# EAGLE library part SN74HC14PW (library TI-SN74HC14)
Hex Schmitt-Trigger Inverter http://www.ti.com/lit/ds/symlink/sn74hc14.pdf Packages: 14-Pin CDIP, CFP, SOIC, SSOP, PDIP, SO, or TSSOP Part #s: SN54HC14J, SNJ54HC14W, SN74HC14DR, SN74HC14DBR, SN74HC14N, SN74HC14NSR, or SN74HC14PW (respectively)
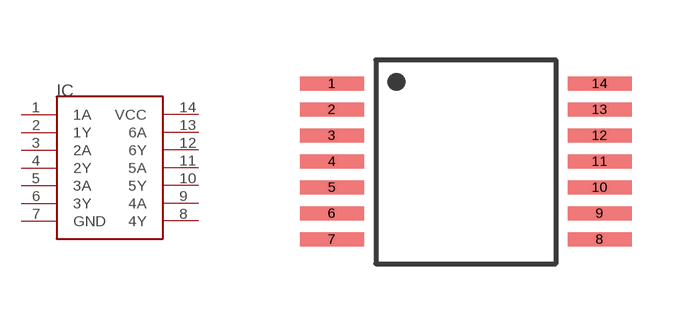
[diagram p0: symbol with the pads of TSSOP-14; footprint TSSOP-14]

Designator prefix IC

## SN74HC14PW  [TSSOP-14]
1  1A
2  1Y
3  2A
4  2Y
5  3A
6  3Y
7  GND
8  4Y
9  4A
10  5Y
11  5A
12  6Y
13  6A
14  VCC

## Footprint TSSOP-14 (pad centres in mm)
Hex Schmitt-Trigger Inverter http://www.ti.com/lit/ds/symlink/sn74hc14.pdf Packages: 14-Pin CDIP, CFP, SOIC, SSOP, PDIP, SO, or TSSOP Part #s: SN54HC14J, SNJ54HC14W, SN74HC14DR, SN74HC14DBR, SN74HC14N, SN74HC14NSR, or SN74HC14PW (respectively)
smd 1.6 x 0.35: 1 -3.35,1.96; 2 -3.35,1.31; 3 -3.35,0.66; 4 -3.35,0.01; 5 -3.35,-0.64; 6 -3.35,-1.29; 7 -3.35,-1.94; 8 3.35,-1.94; 9 3.35,-1.29; 10 3.35,-0.64; 11 3.35,0.01; 12 3.35,0.66; 13 3.35,1.31; 14 3.35,1.96